# Altium footprint library sn65.PcbLib: 1 footprints
Each footprint in its own frame and in the unit in brackets; x right, y up, seen from the top. Pads: shape width x height; smd on the part's side, far side on the other; paste and mask are expansions set on the pad; w line width, h text height; cw(c..) or ccw(c..) is an arc to the next point about the centre after c.
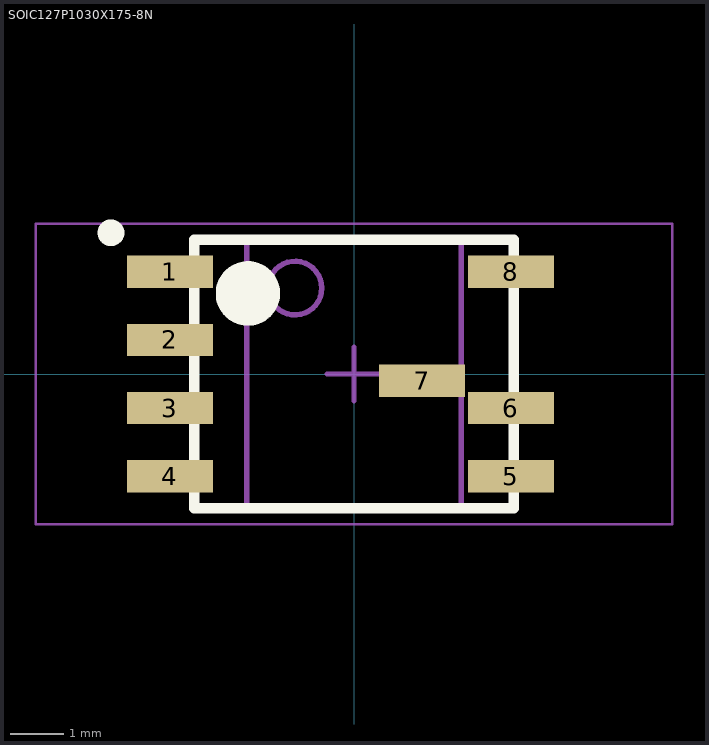
[diagram p0: the footprint, top view; thin cyan lines are the x and y axes]

## SOIC127P1030X175-8N [mm] "SOIC, 8-Leads, Body 4.90x3.90mm, Pitch 1.27mm, IPC Medium Density"
height 1.75
pads (8):
  rect 1.6x0.6 smd: 1(-3.429,1.905) 2(-3.429,0.635) 3(-3.429,-0.635) 4(-3.429,-1.905) 5(2.921,-1.905) 6(2.921,-0.635) 7(1.27,-0.127) 8(2.921,1.905)
Top Overlay:
  circle w0.6: c-1.975,1.5 r0.3
  circle w0.25: c-4.525,2.63 r0.125
  lines w0.2: -2.975,-2.5 2.975,-2.5 2.975,2.5 -2.975,2.5 -2.975,-2.5
Mechanical 13:
  circle w0.1: c-1.1,1.6 r0.5
  lines w0.1: -2,-2.5 2,-2.5 2,2.5 -2,2.5 -2,-2.5
Mechanical 15:
  lines w0.05: -5.925,-2.8 5.925,-2.8 5.925,2.8 -5.925,2.8 -5.925,-2.8
  lines w0.1: -0.5,0 0.5,0 ; 0,-0.5 0,0.5
3D body: height 1.75, standoff 0.25, extent -2,-2.373 2,2.627
3D body "Package, SOIC-8, 3.9mm.STEP": height 1.55, standoff 0.05, extent -3.254,-2.45 2.746,2.45